# EAGLE library part RELAY-G2R2 (library SPCoast)
RELAY 2 x switch, Omron
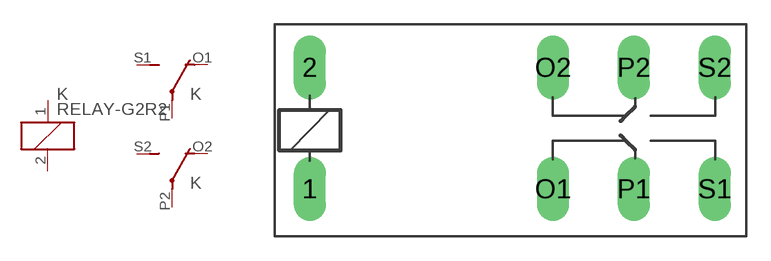
[diagram p17: symbol with the pads of G2R2; footprint G2R2]

Designator prefix K; gates 1=K 2=U 3=U

## RELAY-G2R2 (MF: OMRON COMPONENTS USA; MPN: G2R-2-DC6; OC_FARNELL: unknown; OC_NEWARK: 89C5317)  [G2R2]
1  1:1  pas
2  1:2  pas
O1  2:O  pas
O2  3:O  pas
P1  2:P  pas
P2  3:P  pas
S1  2:S  pas
S2  3:S  pas

## Footprint G2R2 (pad centres in mm)
RELAY 2 x switch, Omron
drill 1.321 long: 1 -11.43,-3.683; 2 -11.43,3.81; O1 3.581,-3.683; O2 3.581,3.81; P1 8.56,-3.683; P2 8.56,3.81; S1 13.564,-3.683; S2 13.564,3.81